# Altium schematic symbol library 901200761.SchLib: 2 symbols
Pins are listed as number, name and electrical type; pins without a type are passive.

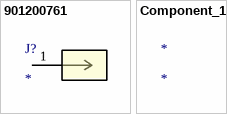
[diagram p0: symbols 901200761 to Component_1]

## 901200761
designator J?
No Description Available; Mfr_Name: Molex Connector Corporation; RefDes: RefDes; Type: Type
footprint CONN01_901200761_MOL
pins: 1

## Component_1
designator *